# EAGLE library part 1X7 (library weidmüller)
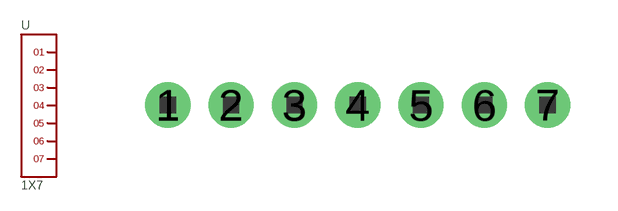
[diagram p1: symbol with the pads of 1X7; footprint 1X7]

Designator prefix -

## 1X7  [1X7]
1  1
2  2
3  3
4  4
5  5
6  6
7  7

## Footprint 1X7 (pad centres in mm)
drill 0.8 pad 1.422: 1 -6,0; 2 -4,0; 3 -2,0; 4 0,0; 5 2,0; 6 4,0; 7 6,0